# Altium footprint library SWPA500X500X200-2L.PcbLib: 1 footprints
Each footprint in its own frame and in the unit in brackets; x right, y up, seen from the top. Pads: shape width x height; smd on the part's side, far side on the other; paste and mask are expansions set on the pad; w line width, h text height; cw(c..) or ccw(c..) is an arc to the next point about the centre after c.
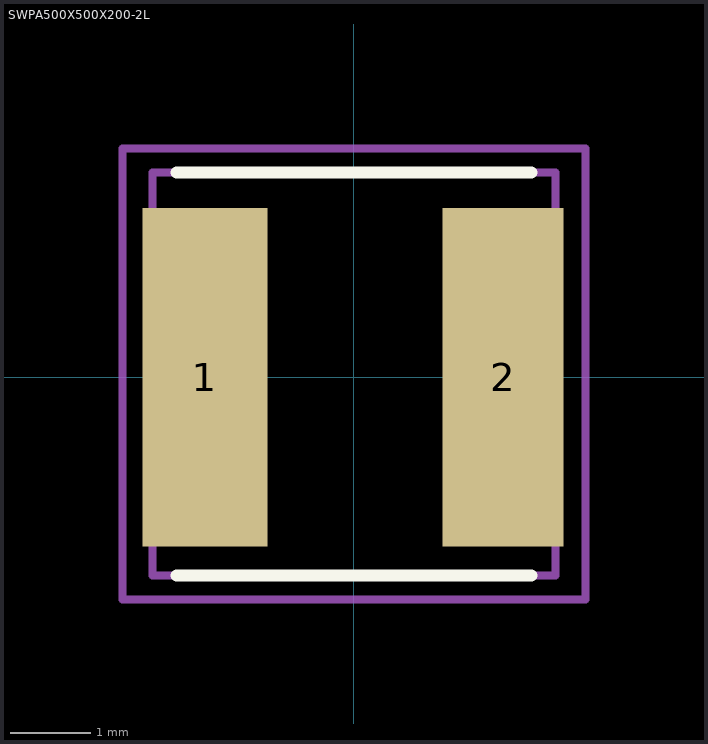
[diagram p0: the footprint, top view; thin cyan lines are the x and y axes]

## SWPA500X500X200-2L [mm] "Boday5x5mmHigh2mm"
height 2
pads (2):
  rect 1.55x4.2 smd: 1(-1.85,0)
  rect 1.5x4.2 smd: 2(1.85,0)
Top Overlay:
  lines w0.152: -2.2,-2.46 2.2,-2.46 ; -2.2,2.54 2.2,2.54
Mechanical 13:
  lines w0.1: -2.5,-2.46 -2.5,2.54 2.5,2.54 2.5,-2.46 -2.5,-2.46
Mechanical 15:
  lines w0.1: -2.875,-2.76 2.875,-2.76 2.875,2.84 -2.875,2.84 -2.875,-2.76
3D body: height 2, standoff -0.01, extent -2.5,-2.5 2.5,2.5